# EAGLE library part TRR2A05*-D (library relay_trr)
TTI TRR Series relay
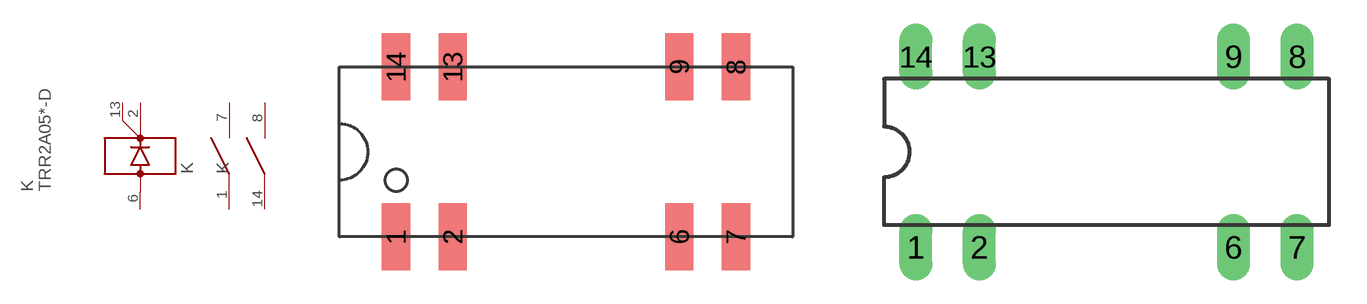
[diagram p0: symbol with the pads of TRR2A05S; footprints TRR2A05S, DIL14/8]

Designator prefix K; gates @=TRR2A05S-D :S1=TRR2A05S-D_K :S2=TRR2A05S-D_K

## TRR2A05-D(SOIC)  [TRR2A05S]
1  :S1:P$1
2  @:V+
6  @:V-
7  :S1:P$2
8  :S2:P$2
13  @:V+
14  :S2:P$1

## TRR2A05-D(DIP)  [DIL14/8]
Pads as for TRR2A05S

## Footprint TRR2A05S (pad centres in mm)
smd 1.27 x 3: 1 -7.62,-3.81; 2 -5.08,-3.81; 6 5.08,-3.81; 7 7.62,-3.81; 8 7.62,3.81; 9 5.08,3.81; 13 -5.08,3.81; 14 -7.62,3.81

## Footprint DIL14/8 (pad centres in mm)
Dual In Line Package
drill 0.813 long: 1 -7.62,-3.81; 2 -5.08,-3.81; 6 5.08,-3.81; 7 7.62,-3.81; 8 7.62,3.81; 9 5.08,3.81; 13 -5.08,3.81; 14 -7.62,3.81